# Altium footprint library IMXRT1052_MB_PRO.PcbLib: 59 footprints (part 4 of 4)
Each footprint in its own frame and in the unit in brackets; x right, y up, seen from the top. Pads: shape width x height; smd on the part's side, far side on the other; paste and mask are expansions set on the pad; w line width, h text height; cw(c..) or ccw(c..) is an arc to the next point about the centre after c.
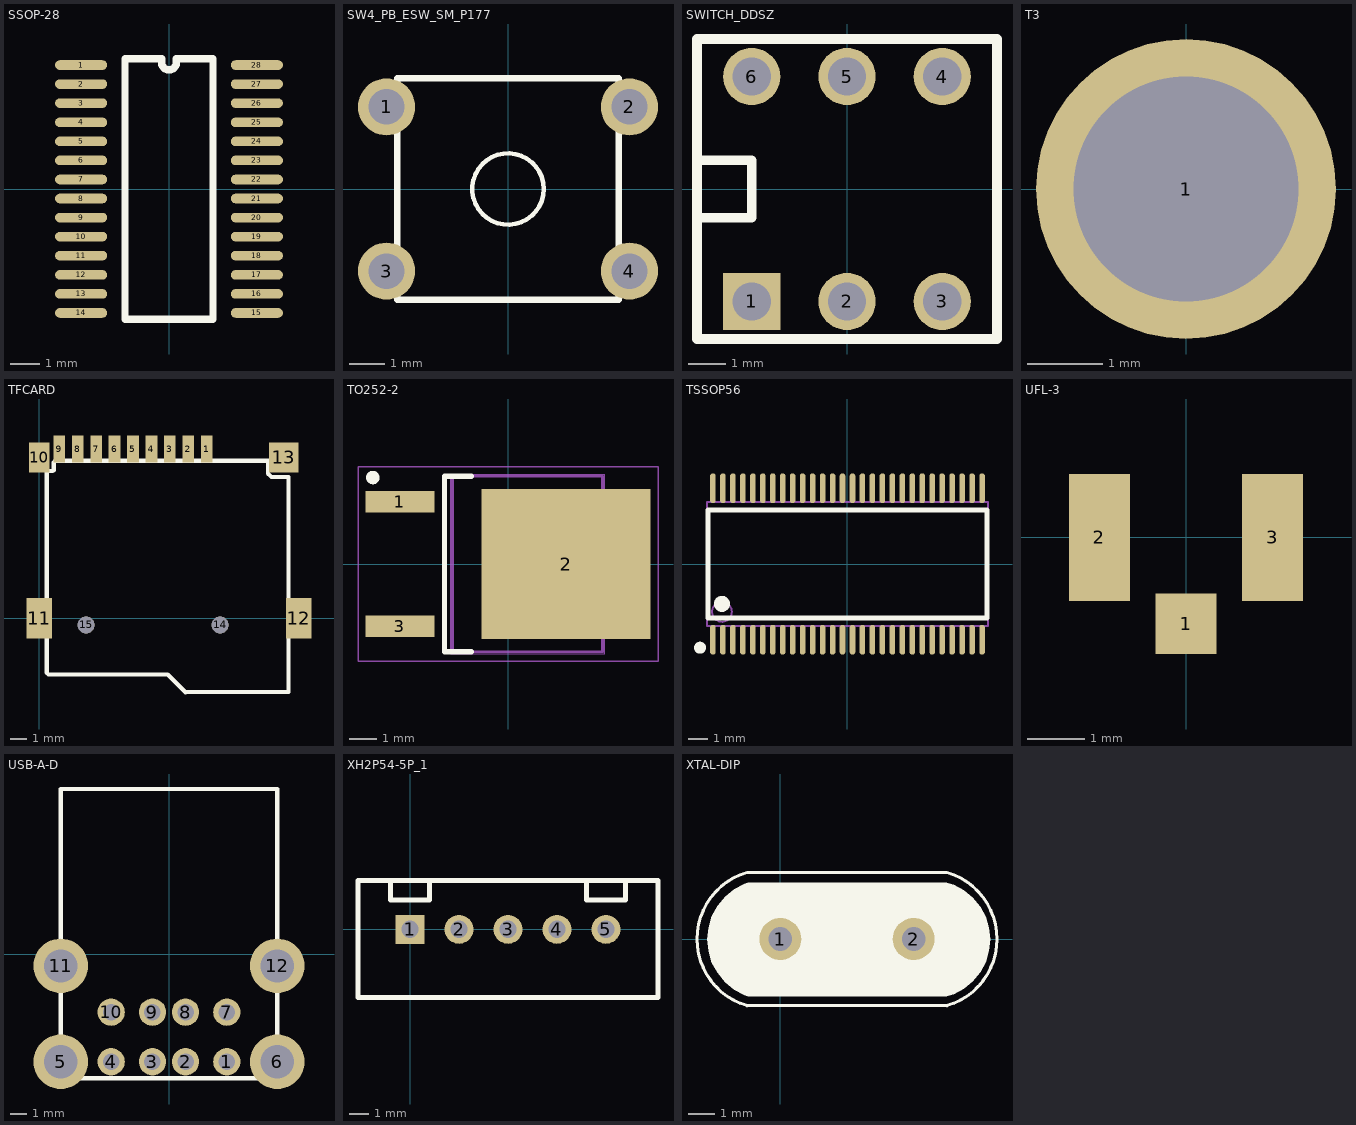
[diagram p3: the footprints below, top view; thin cyan lines are the x and y axes]

## SSOP-28 [mil]
pads (28):
  oval 70x13 smd: 1(-118.11,166.4) 2(-118.11,140.8) 3(-118.11,115.2) 4(-118.11,89.6) 5(-118.11,64) 6(-118.11,38.4) 7(-118.11,12.8) 8(-118.11,-12.8) 9(-118.11,-38.4) 10(-118.11,-64) 11(-118.11,-89.6) 12(-118.11,-115.2) 13(-118.11,-140.8) 14(-118.11,-166.4) 15(118.11,-166.4) 16(118.11,-140.8) 17(118.11,-115.2) 18(118.11,-89.6) 19(118.11,-64) 20(118.11,-38.4) 21(118.11,-12.8) 22(118.11,12.8) 23(118.11,38.4) 24(118.11,64) 25(118.11,89.6) 26(118.11,115.2) 27(118.11,140.8) 28(118.11,166.4)
Top Overlay:
  lines w10: -59.06,-175 -59.06,175 -10,175 -10,170 ccw(c0,170) 10,170 10,175 59.06,175 59.06,-175 -59.06,-175

## SW4_PB_ESW_SM_P177 [mm]
pads (4):
  round 1.6 hole 1: 1(-3.4,2.3) 2(3.4,2.3) 3(-3.4,-2.3) 4(3.4,-2.3)
Top Overlay:
  circle w0.127: c0,0 r1
  lines w0.178: -3.1,-3.1 -3.1,3.1 3.1,3.1 3.1,-3.1 -3.1,-3.1

## SWITCH_DDSZ [mil]
pads (6):
  rect 60x60 hole 40: 1(-100,-118.11)
  round 60 hole 40: 2(0,-118.11) 3(100,-118.11) 4(100,118.11) 5(0,118.11) 6(-100,118.11)
Top Overlay:
  lines w10: -157.48,-30 -100,-30 -100,30 -157.48,30 ; -157.48,-157.48 157.48,-157.48 157.48,157.48 -157.48,157.48 -157.48,-157.48

## T3 [mm]
pads (1):
  round 4 hole 3: 1(0,0)

## TFCARD [mm]
pads (15):
  rect 0.7x1.6 smd: 1(10,10.1) 2(8.9,10.1) 3(7.8,10.1) 4(6.7,10.1) 5(5.6,10.1) 6(4.5,10.1) 7(3.4,10.1) 8(2.3,10.1) 9(1.2,10.1)
  rect 1.2x1.778 smd: 10(0,9.6)
  rect 1.524x2.413 smd: 11(0,0) 12(15.5,0)
  rrect0% 1.778x1.778 smd: 13(14.6,9.6)
  round 1 hole 1: 14(10.8,-0.4) 15(2.8,-0.4)
Top Overlay:
  lines w0.254: 0.406,8.788 0.813,8.788 0.864,8.839 0.864,9.296 0.965,9.398 13.665,9.398 13.665,8.636 13.868,8.433 14.884,8.433 14.884,-4.4 8.738,-4.42 7.671,-3.353 0.559,-3.353 0.457,-3.251 0.457,8.738 0.406,8.788

## TO252-2 [mm]
height 2.4
pads (3):
  rect 2.55x0.8 smd: 1(-4,2.3) 3(-4,-2.3)
  rect 6.25x5.55 smd: 2(2.15,0)
Top Overlay:
  circle w0.25: c-5,3.2 r0.125
  lines w0.2: -1.35,-3.25 -2.35,-3.25 -2.35,3.25 -1.35,3.25
Top Paste:
  region: -0.25,-2.06 1.79,-2.06 1.79,-0.36 -0.25,-0.36
  region: 2.51,-2.06 4.55,-2.06 4.55,-0.36 2.51,-0.36
  region: -0.25,0.36 1.79,0.36 1.79,2.06 -0.25,2.06
  region: 2.51,0.36 4.55,0.36 4.55,2.06 2.51,2.06
Mechanical 1:
  lines w0.1: 3.5,-2.668 3.946,-2.668 4.85,-1.666 4.85,1.666 3.946,2.668 3.5,2.668 ; -2.05,-3.25 3.5,-3.25 3.5,3.25 -2.05,3.25 -2.05,-3.25
  text "U3" at -0.678,-0.45 h0.75
Mechanical 16:
  circle w0.05: c0,0 r0.35
  lines w0.001: -2.125,-3.325 3.575,-3.325 3.575,3.325 -2.125,3.325 -2.125,-3.325
  lines w0.05: -0.5,0 0.5,0 ; 0,-0.5 0,0.5 ; -5.55,-3.6 5.55,-3.6 5.55,3.6 -5.55,3.6 -5.55,-3.6

## TSSOP56 [mm]
pads (56):
  oval 0.28x1.5 smd mask+0.051: 1(-6.75,-3.8) 2(-6.25,-3.8) 3(-5.75,-3.8) 4(-5.25,-3.8) 5(-4.75,-3.8) 6(-4.25,-3.8) 7(-3.75,-3.8) 8(-3.25,-3.8) 9(-2.75,-3.8) 10(-2.25,-3.8) 11(-1.75,-3.8) 12(-1.25,-3.8) 13(-0.75,-3.8) 14(-0.25,-3.8) 15(0.25,-3.8) 16(0.75,-3.8) 17(1.25,-3.8) 18(1.75,-3.8) 19(2.25,-3.8) 20(2.75,-3.8) 21(3.25,-3.8) 22(3.75,-3.8) 23(4.25,-3.8) 24(4.75,-3.8) 25(5.25,-3.8) 26(5.75,-3.8) 27(6.25,-3.8) 28(6.75,-3.8) 29(6.75,3.8) 30(6.25,3.8) 31(5.75,3.8) 32(5.25,3.8) 33(4.75,3.8) 34(4.25,3.8) 35(3.75,3.8) 36(3.25,3.8) 37(2.75,3.8) 38(2.25,3.8) 39(1.75,3.8) 40(1.25,3.8) 41(0.75,3.8) 42(0.25,3.8) 43(-0.25,3.8) 44(-0.75,3.8) 45(-1.25,3.8) 46(-1.75,3.8) 47(-2.25,3.8) 48(-2.75,3.8) 49(-3.25,3.8) 50(-3.75,3.8) 51(-4.25,3.8) 52(-4.75,3.8) 53(-5.25,3.8) 54(-5.75,3.8) 55(-6.25,3.8) 56(-6.75,3.8)
Top Overlay:
  circle w0.3: c-7.4,-4.2 r0.15
  circle w0.4: c-6.3,-2 r0.2
  lines w0.254: -7,-2.7 -7,2.7 7,2.7 7,-2.7 -7,-2.7
Mechanical 16:
  circle w0.1: c-6.3,-2.4 r0.5
  lines w0.1: -7.05,-3.1 -7.05,3.1 7.05,3.1 7.05,-3.1 -7.05,-3.1

## UFL-3 [mm]
pads (3):
  rect 1.05x1.05 smd: 1(0,-1.5)
  rect 1.05x2.2 smd: 2(-1.5,0) 3(1.5,0)

## USB-A-D [mm]
pads (12):
  round 1.651 hole 1: 1(3.5,-6.5) 2(1,-6.5) 3(-1,-6.5) 4(-3.5,-6.5) 7(3.5,-3.5) 8(1,-3.5) 9(-1,-3.5) 10(-3.5,-3.5)
  round 3.3 hole 2: 5(-6.55,-6.5) 6(6.55,-6.5) 11(-6.55,-0.7) 12(6.55,-0.7)
Top Overlay:
  lines w0.254: -6.55,-7.5 6.55,-7.5 6.55,10 -6.55,10 -6.55,-7.5

## XH2P54-5P_1 [mm]
pads (5):
  rect 1.5x1.5 hole 0.9: 1(0,0)
  round 1.5 hole 0.9: 2(2.54,0) 3(5.08,0) 4(7.62,0) 5(10.16,0)
Top Overlay:
  lines w0.254: -2.7,-3.54 12.86,-3.54 12.86,2.54 -2.7,2.54 -2.7,-3.54 ; -1.016,1.524 1.016,1.524 1.016,2.54 -1.016,2.54 -1.016,1.524 ; 9.144,1.524 11.176,1.524 11.176,2.54 9.144,2.54 9.144,1.524

## XTAL-DIP [mm]
pads (2):
  round 1.6 hole 0.9: 1(0,0) 2(5.08,0)
Top Overlay:
  region: -1.237,2.146 6.34,2.146 6.599,2.067 6.989,1.859 7.33,1.579 7.611,1.237 7.819,0.848 7.947,0.425 7.991,-0.015 7.947,-0.455 7.819,-0.878 7.611,-1.267 7.33,-1.609 6.989,-1.889 6.599,-2.097 6.336,-2.177 6.338,-2.176 -1.238,-2.178 -1.361,-2.141 -1.758,-1.928 -2.107,-1.642 -2.393,-1.293 -2.606,-0.895 -2.737,-0.464 -2.781,-0.015 -2.737,0.434 -2.606,0.865 -2.393,1.263 -2.107,1.612 -1.758,1.898 -1.361,2.111 -1.238,2.148
  lines w0.12: -1.272,2.539 ccw(c-0.53,0) -1.268,-2.541 ; -1.27,-2.54 6.35,-2.54 ; -1.27,2.54 6.35,2.54 ; 1.016,0 1.524,0 ; 1.524,-1.016 1.524,1.016 ; 3.556,-1.016 3.556,1.016 ; 3.556,0 4.064,0 ; 6.348,-2.541 ccw(c5.61,0) 6.352,2.539 ; 2.032,-1.016 2.032,1.016 3.048,1.016 3.048,-1.016 2.032,-1.016